# Altium schematic symbol library IMU.SchLib: 4 symbols
Pins are listed as number, name and electrical type; pins without a type are passive.

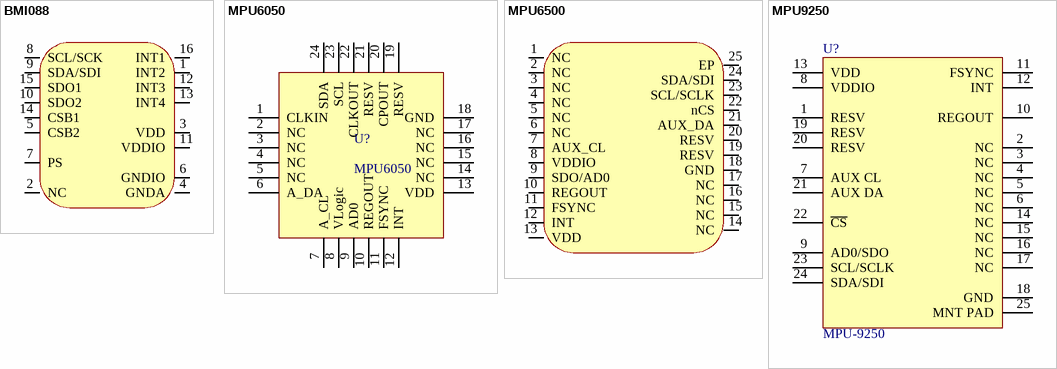
[diagram p0: symbols BMI088 to MPU9250]

## BMI088
designator U??  (value not drawn)
Manufacturer: Bosch(博世); Add into BOM: yes; Name: BMI088; Symbol: BMI088; Device: BMI088; LCSC Part Name: BMI088; Supplier Part: C194919; Manufacturer Part: BMI088; Supplier Footprint: LGA-16; JLCPCB Part Class: Extended Part; Datasheet: https://atta.szlcsc.com/upload/public/pdf/source/20180628/C194919_66CCF125FF968C218A4D358C68AC68D6.pdf; Supplier: LCSC; Convert to PCB: yes
footprint LGA-16_L4.5-W3.0-P0.50-BL
pins: 1 INT2, 2 NC, 3 VDD, 4 GNDA, 5 CSB2, 6 GNDIO, 7 PS, 8 SCL/SCK, 9 SDA/SDI, 10 SDO2, 11 VDDIO, 12 INT3, 13 INT4, 14 CSB1, 15 SDO1, 16 INT1

## MPU6050
designator U?
MPU6050_六轴传感器
footprint QFN_24
footprint QFN-24_SMALL (QFN_24_无外部引脚)
pins: 1 CLKIN, 2 NC, 3 NC, 4 NC, 5 NC, 6 A_DA, 7 A_CL, 8 VLogic, 9 AD0, 10 REGOUT, 11 FSYNC, 12 INT, 13 VDD, 14 NC, 15 NC, 16 NC, 17 NC, 18 GND, 19 RESV, 20 CPOUT, 21 RESV, 22 CLKOUT, 23 SCL, 24 SDA

## MPU6500
designator ?  (value not drawn)
Designer: U?; Symbol: MPU6500; Device: MPU6500
footprint QFN_24
pins: 1 NC, 2 NC, 3 NC, 4 NC, 5 NC, 6 NC, 7 AUX_CL, 8 VDDIO, 9 SDO/AD0, 10 REGOUT, 11 FSYNC, 12 INT, 13 VDD, 14 NC, 15 NC, 16 NC, 17 NC, 18 GND, 19 RESV, 20 RESV, 21 AUX_DA, 22 nCS, 23 SCL/SCLK, 24 SDA/SDI, 25 EP

## MPU9250
designator U?  Part Number: MPU-9250  (hidden comment: MPU9250)
IC IMU ACCEL/GYRO/MAG I2C/SPI 24QFN; Manufacturer: TDK InvenSense; helpURL: https://upverter.com/upn/revision/45d9ab674e6b8452/; ComponentLink2Description: Datasheet; Temperature: -40°C to +85°C; Package: QFN24; Supplier 2: Mouser; Supplier 1: Digi-Key; ComponentLink1URL: https://upverter.com/upn/revision/45d9ab674e6b8452/; Supplier Part Number 2: 410-MPU-9250; Supplier Part Number 1: 1428-1019-1-ND; ComponentLink1Description: Upverter; ComponentLink2URL: https://store.invensense.com/datasheets/invensense/MPU9250REV1.0.pdf; RoHS: TRUE; Mouser Part Number: 410-MPU-9250; Ipc Land Pattern Name: QFN40P300X300X100-24; Temperature Range High: +85°C; Digikey Description: IC IMU ACCEL/GYRO/MAG I2C/SPI 24QFN; Digikey Part Number: 1428-1019-1-ND; Lead Free: yes; Temperature Range Low: -40°C
footprint QFN_24
footprint QFN-24_SMALL (QFN_24_无外部引脚)
pins: 1 RESV, 2 NC, 3 NC, 4 NC, 5 NC, 6 NC, 7 AUX CL, 8 VDDIO, 9 AD0/SDO, 10 REGOUT, 11 FSYNC, 12 INT, 13 VDD, 14 NC, 15 NC, 16 NC, 17 NC, 18 GND, 19 RESV, 20 RESV, 21 AUX DA, 22 ~{CS}, 23 SCL/SCLK, 24 SDA/SDI, 25 MNT PAD